# Altium schematic symbol library 5-Led_lib.SchLib: 12 symbols
Pins are listed as number, name and electrical type; pins without a type are passive.

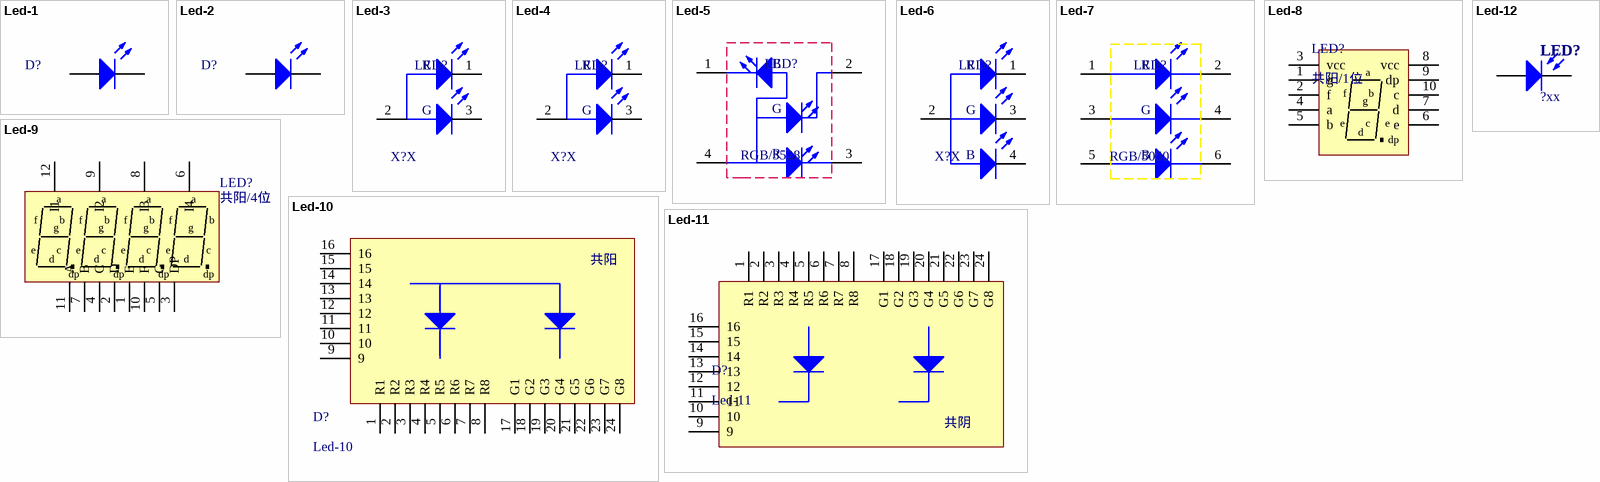
[diagram p0: symbols Led-1 to Led-12]

## Led-1
designator D?, comment g  (value not drawn)
贴片单色发光二极管; 价格: 0.01; 版本: 2015-V1.0; 厂家: *; Value: g
footprint LED-0603
footprint LED-0805
footprint LED-1206 (贴片发光二极管)
pins: 1 A, 2 K

## Led-2
designator D?, comment g  (value not drawn)
直插单色发光二极管; 价格: 0.01; 版本: 2015-V1.0; 厂家: *; Value: g
footprint LED3
footprint LED5
footprint LED-3-G
footprint LED-3-R
footprint LED-3-Y
footprint LED_1 (LED; 2 Leads)
footprint LED_2 (LED; 2 Leads)
footprint LED_5MM
footprint LED_A1 (直径3MM二极管)
footprint LED_A2 (直径3MM二极管)
pins: 1 A, 2 K

## Led-3
designator LED?, comment X?X
贴片双色发光二极管
pins: 1, 2, 3
text: R; G

## Led-4
designator LED?, comment X?X
直插双色发光二极管
pins: 1, 2, 3
text: R; G

## Led-5
designator LED?, comment RGB/3528
4脚贴片三色发光二极管（3528）
footprint LED3258
pins: 1, 2, 3, 4
text: B; G; R

## Led-6
designator LED?, comment X?X
4脚直插三色发光二极管（F5）
footprint LED-RGB (三基色二极管)
pins: 1, 2, 3, 4
text: R; G; B

## Led-7
designator LED?, comment RGB/5050
6脚贴片三色发光二极管（5050）
footprint 5050
pins: 1, 2, 3, 4, 5, 6
text: R; G; B

## Led-8
designator LED?, comment 共阳/1位
共阳一段数码管
footprint LED_DIG2
pins: 1 g, 2 f, 3 vcc, 4 a, 5 b, 6 e, 7 d, 8 vcc, 9 dp, 10 c

## Led-9
designator LED?, comment 共阳/4位
共阳四位数码管
footprint SHUMA_DIP12
pins: 1 E, 2 D, 3 DP, 4 C, 5 G, 6 I4, 7 B, 8 I3, 9 I2, 10 F, 11 A, 12 I1
text: a; f; b; g; e; c; d; dp

## Led-10
designator D?
1.9mm点阵模块_共阳
footprint KYX_788
footprint KYX_788_22x22
pins: 1 R1, 2 R2, 3 R3, 4 R4, 5 R5, 6 R6, 7 R7, 8 R8, 9, 10, 11, 12, 13, 14, 15, 16, 17 G1, 18 G2, 19 G3, 20 G4, 21 G5, 22 G6, 23 G7, 24 G8
text: 共阳

## Led-11
designator D?
1.9mm点阵模块_共阴
footprint KYX_788
pins: 1 R1, 2 R2, 3 R3, 4 R4, 5 R5, 6 R6, 7 R7, 8 R8, 9, 10, 11, 12, 13, 14, 15, 16, 17 G1, 18 G2, 19 G3, 20 G4, 21 G5, 22 G6, 23 G7, 24 G8
text: 共阴

## Led-12
designator LED?, comment ?xx
光电二极管，光敏二极管
pins: 1 A, 2 K